# Altium footprint library Footprints_Semiconductors.PcbLib: 2 footprints
Each footprint in its own frame and in the unit in brackets; x right, y up, seen from the top. Pads: shape width x height; smd on the part's side, far side on the other; paste and mask are expansions set on the pad; w line width, h text height; cw(c..) or ccw(c..) is an arc to the next point about the centre after c.
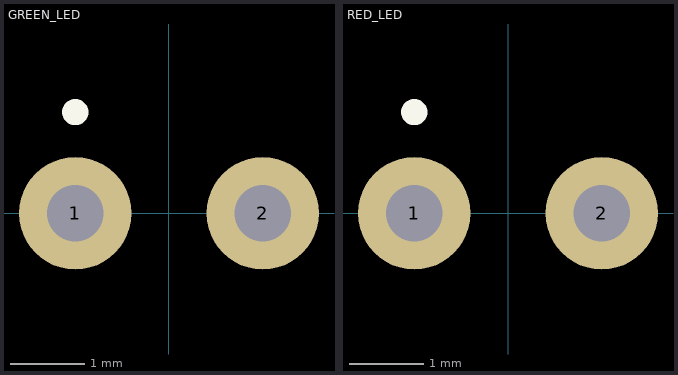
[diagram p0: the footprints below, top view; thin cyan lines are the x and y axes]

## GREEN_LED [mil]
pads (2):
  round 60 hole 30: 1(-50,0) 2(50,0)
Top Overlay:
  circle w10: c-50,53.94 r1.97
3D body "LED 5mm, Green, Thru-hole, Right Angle PCB 2.stp": height 234.07, standoff -125.98, extent -116.09,-421.26 96.46,9.84

## RED_LED [mil]
pads (2):
  round 60 hole 30: 1(-50,0) 2(50,0)
Top Overlay:
  circle w10: c-50,53.94 r1.97
3D body "LED 5mm, Red, Thru-hole, Right Angle PCB 2.stp": height 234.07, standoff -125.98, extent -116.09,-421.26 96.46,9.84